# Altium footprint library CONN_TBLOCK_7P62.PcbLib: 76 footprints (part 5 of 5)
Each footprint in its own frame and in the unit in brackets; x right, y up, seen from the top. Pads: shape width x height; smd on the part's side, far side on the other; paste and mask are expansions set on the pad; w line width, h text height; cw(c..) or ccw(c..) is an arc to the next point about the centre after c.
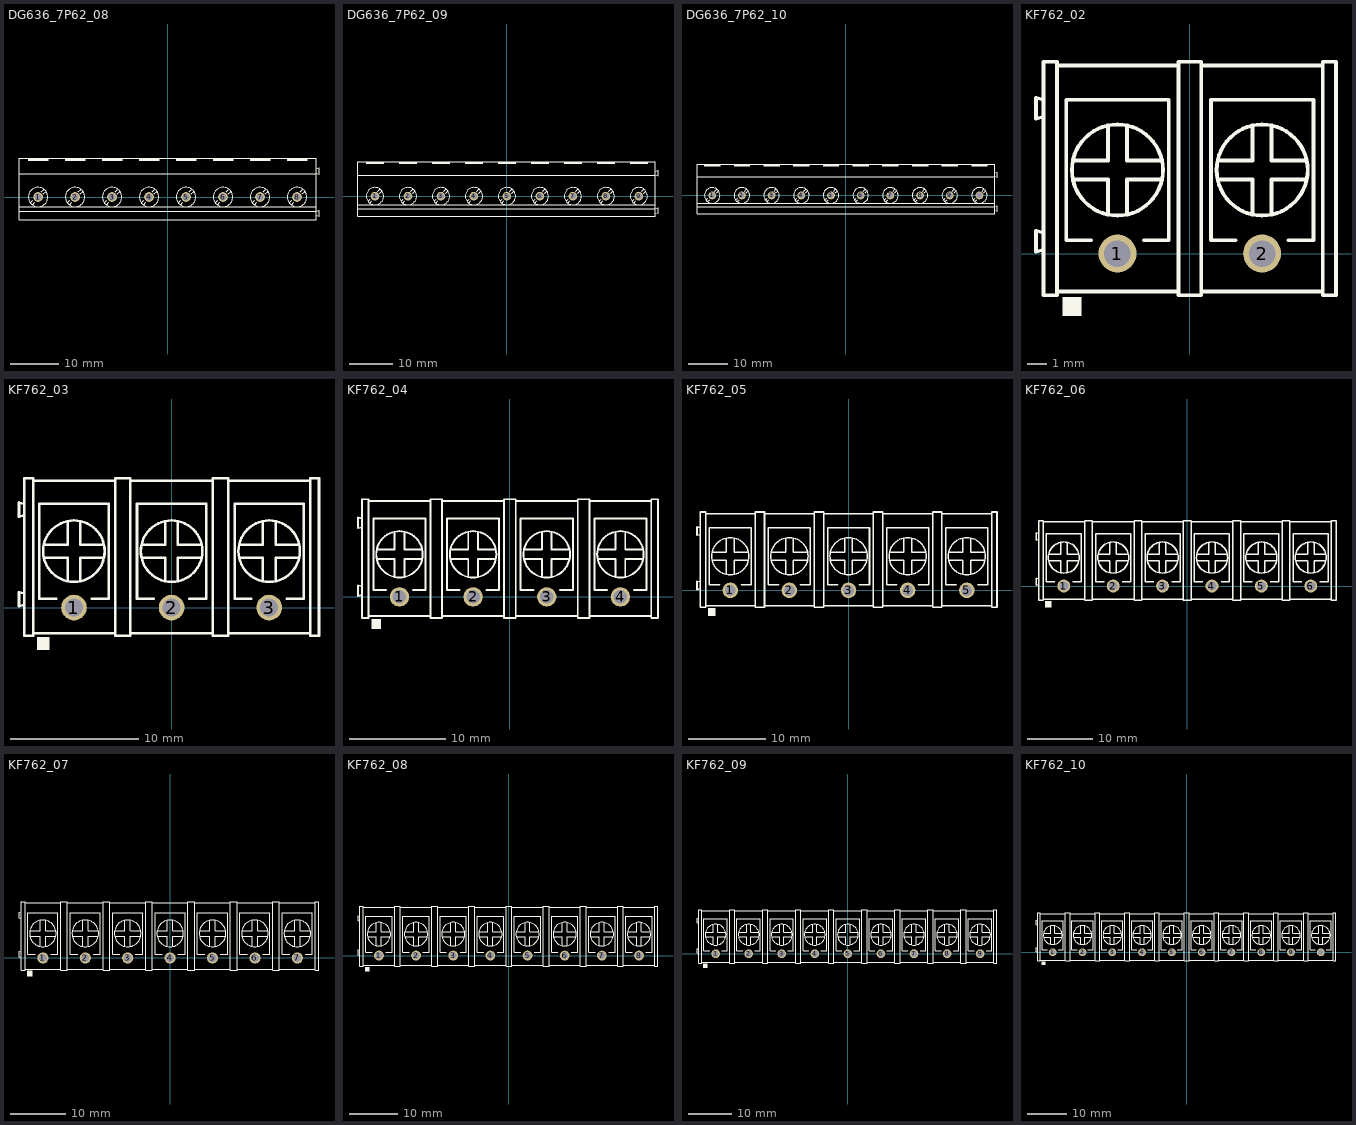
[diagram p4: the footprints below, top view; thin cyan lines are the x and y axes]

## DG636_7P62_08 [mm] "Terminal Screw, pitch 7.62mm, H 21.5mm"
height 21.5
pads (8):
  round 2 / inner round 2 / far side rect 2.2x3 hole 1.4: 1(-26.67,0)
  round 2 / inner round 2 / far side oval 2.2x3 hole 1.4: 2(-19.05,0) 3(-11.43,0) 4(-3.81,0) 5(3.81,0) 6(11.43,0) 7(19.05,0) 8(26.67,0)
Top Overlay:
  circle w0.2: c26.67,0 r2
  circle w0.2: c19.05,0 r2
  circle w0.2: c11.43,0 r2
  circle w0.2: c3.81,0 r2
  circle w0.2: c-3.81,0 r2
  circle w0.2: c-11.43,0 r2
  circle w0.2: c-19.05,0 r2
  circle w0.2: c-26.67,0 r2
  rectangle: 24.58,7.4 28.78,8
  rectangle: 16.96,7.4 21.16,8
  rectangle: 9.34,7.4 13.54,8
  rectangle: 1.72,7.4 5.92,8
  rectangle: -5.9,7.4 -1.7,8
  rectangle: -13.52,7.4 -9.32,8
  rectangle: -21.14,7.4 -16.94,8
  rectangle: -28.76,7.4 -24.56,8
  lines w0.2: -30.6,-2.9 30.6,-2.9 31.2,-2.7 31.2,-4 30.6,-3.8 ; -30.6,-2 30.6,-2 ; -30.6,4.8 30.6,4.8 ; -28.213,-1.119 -27.782,-0.688 ; -27.789,-1.543 -27.358,-1.112 ; -25.982,1.112 -25.551,1.543 ; -25.558,0.688 -25.127,1.119 ; -20.593,-1.119 -20.162,-0.688 ; -20.169,-1.543 -19.738,-1.112 ; -18.362,1.112 -17.931,1.543 ; -17.938,0.688 -17.507,1.119 ; -12.973,-1.119 -12.542,-0.688 ; -12.549,-1.543 -12.118,-1.112 ; -10.742,1.112 -10.311,1.543 ; -10.318,0.688 -9.887,1.119 ; -5.353,-1.119 -4.922,-0.688 ; -4.929,-1.543 -4.498,-1.112 ; -3.122,1.112 -2.691,1.543 ; -2.698,0.688 -2.267,1.119 ; 2.267,-1.119 2.698,-0.688 ; 2.691,-1.543 3.122,-1.112 ; 4.498,1.112 4.929,1.543 ; 4.922,0.688 5.353,1.119 ; 9.887,-1.119 10.318,-0.688 ; 10.311,-1.543 10.742,-1.112 ; 12.118,1.112 12.549,1.543 ; 12.542,0.688 12.973,1.119 ; 17.507,-1.119 17.938,-0.688 ; 17.931,-1.543 18.362,-1.112 ; 19.738,1.112 20.169,1.543 ; 20.162,0.688 20.593,1.119 ; 25.127,-1.119 25.558,-0.688 ; 25.551,-1.543 25.982,-1.112 ; 27.358,1.112 27.789,1.543 ; 27.782,0.688 28.213,1.119 ; 30.6,4.9 31.2,4.7 31.2,6 30.6,5.8 ; -30.6,-4.7 -30.6,8 30.6,8 30.6,-4.7 -30.6,-4.7
3D body "DG636-7.62-03P.stp": height 21.55, standoff -4.95, extent 7.63,-4.6 31.07,7.9
3D body "DG636-7.62-02P.stp": height 21.55, standoff -4.95, extent -30.47,-4.6 -14.65,7.9
3D body "DG636-7.62-03P.stp": height 21.55, standoff -4.95, extent -15.23,-4.6 8.21,7.9

## DG636_7P62_09 [mm] "Terminal Screw, pitch 7.62mm, H 21.5mm"
height 21.5
pads (9):
  round 2 / inner round 2 / far side rect 2.2x3 hole 1.4: 1(-30.48,0)
  round 2 / inner round 2 / far side oval 2.2x3 hole 1.4: 2(-22.86,0) 3(-15.24,0) 4(-7.62,0) 5(0,0) 6(7.62,0) 7(15.24,0) 8(22.86,0) 9(30.48,0)
Top Overlay:
  circle w0.2: c30.48,0 r2
  circle w0.2: c22.86,0 r2
  circle w0.2: c15.24,0 r2
  circle w0.2: c7.62,0 r2
  circle w0.2: c0,0 r2
  circle w0.2: c-7.62,0 r2
  circle w0.2: c-15.24,0 r2
  circle w0.2: c-22.86,0 r2
  circle w0.2: c-30.48,0 r2
  rectangle: 28.39,7.4 32.59,8
  rectangle: 20.77,7.4 24.97,8
  rectangle: 13.15,7.4 17.35,8
  rectangle: 5.53,7.4 9.73,8
  rectangle: -2.09,7.4 2.11,8
  rectangle: -9.71,7.4 -5.51,8
  rectangle: -17.33,7.4 -13.13,8
  rectangle: -24.95,7.4 -20.75,8
  rectangle: -32.57,7.4 -28.37,8
  lines w0.2: -34.4,-2.9 34.3,-2.9 34.9,-2.7 34.9,-4 34.3,-3.8 ; -34.4,-2 34.3,-2 ; -34.4,4.8 34.3,4.8 ; -32.023,-1.119 -31.592,-0.688 ; -31.599,-1.543 -31.168,-1.112 ; -29.792,1.112 -29.361,1.543 ; -29.368,0.688 -28.937,1.119 ; -24.403,-1.119 -23.972,-0.688 ; -23.979,-1.543 -23.548,-1.112 ; -22.172,1.112 -21.741,1.543 ; -21.748,0.688 -21.317,1.119 ; -16.783,-1.119 -16.352,-0.688 ; -16.359,-1.543 -15.928,-1.112 ; -14.552,1.112 -14.121,1.543 ; -14.128,0.688 -13.697,1.119 ; -9.163,-1.119 -8.732,-0.688 ; -8.739,-1.543 -8.308,-1.112 ; -6.932,1.112 -6.501,1.543 ; -6.508,0.688 -6.077,1.119 ; -1.543,-1.119 -1.112,-0.688 ; -1.119,-1.543 -0.688,-1.112 ; 0.688,1.112 1.119,1.543 ; 1.112,0.688 1.543,1.119 ; 6.077,-1.119 6.508,-0.688 ; 6.501,-1.543 6.932,-1.112 ; 8.308,1.112 8.739,1.543 ; 8.732,0.688 9.163,1.119 ; 13.697,-1.119 14.128,-0.688 ; 14.121,-1.543 14.552,-1.112 ; 15.928,1.112 16.359,1.543 ; 16.352,0.688 16.783,1.119 ; 21.317,-1.119 21.748,-0.688 ; 21.741,-1.543 22.172,-1.112 ; 23.548,1.112 23.979,1.543 ; 23.972,0.688 24.403,1.119 ; 28.937,-1.119 29.368,-0.688 ; 29.361,-1.543 29.792,-1.112 ; 31.168,1.112 31.599,1.543 ; 31.592,0.688 32.023,1.119 ; 34.3,4.9 34.9,4.7 34.9,6 34.3,5.8 ; -34.4,-4.7 -34.4,8 34.3,8 34.3,-4.7 -34.4,-4.7
3D body "DG636-7.62-03P.stp": height 21.55, standoff -4.95, extent -34.28,-4.6 -10.84,7.9
3D body "DG636-7.62-03P.stp": height 21.55, standoff -4.95, extent -11.42,-4.6 12.02,7.9
3D body "DG636-7.62-03P.stp": height 21.55, standoff -4.95, extent 11.44,-4.6 34.88,7.9

## DG636_7P62_10 [mm] "Terminal Screw, pitch 7.62mm, H 21.5mm"
height 21.5
pads (10):
  round 2 / inner round 2 / far side rect 2.2x3 hole 1.4: 1(-34.29,0)
  round 2 / inner round 2 / far side oval 2.2x3 hole 1.4: 2(-26.67,0) 3(-19.05,0) 4(-11.43,0) 5(-3.81,0) 6(3.81,0) 7(11.43,0) 8(19.05,0) 9(26.67,0) 10(34.29,0)
Top Overlay:
  circle w0.2: c34.29,0 r2
  circle w0.2: c26.67,0 r2
  circle w0.2: c19.05,0 r2
  circle w0.2: c11.43,0 r2
  circle w0.2: c3.81,0 r2
  circle w0.2: c-3.81,0 r2
  circle w0.2: c-11.43,0 r2
  circle w0.2: c-19.05,0 r2
  circle w0.2: c-26.67,0 r2
  circle w0.2: c-34.29,0 r2
  rectangle: 32.2,7.4 36.4,8
  rectangle: 24.58,7.4 28.78,8
  rectangle: 16.96,7.4 21.16,8
  rectangle: 9.34,7.4 13.54,8
  rectangle: 1.72,7.4 5.92,8
  rectangle: -5.9,7.4 -1.7,8
  rectangle: -13.52,7.4 -9.32,8
  rectangle: -21.14,7.4 -16.94,8
  rectangle: -28.76,7.4 -24.56,8
  rectangle: -36.38,7.4 -32.18,8
  lines w0.2: -38.2,-2.9 38.2,-2.9 38.8,-2.7 38.8,-4 38.2,-3.8 ; -38.2,-2 38.2,-2 ; -38.2,4.8 38.2,4.8 ; -35.833,-1.119 -35.402,-0.688 ; -35.409,-1.543 -34.978,-1.112 ; -33.602,1.112 -33.171,1.543 ; -33.178,0.688 -32.747,1.119 ; -28.213,-1.119 -27.782,-0.688 ; -27.789,-1.543 -27.358,-1.112 ; -25.982,1.112 -25.551,1.543 ; -25.558,0.688 -25.127,1.119 ; -20.593,-1.119 -20.162,-0.688 ; -20.169,-1.543 -19.738,-1.112 ; -18.362,1.112 -17.931,1.543 ; -17.938,0.688 -17.507,1.119 ; -12.973,-1.119 -12.542,-0.688 ; -12.549,-1.543 -12.118,-1.112 ; -10.742,1.112 -10.311,1.543 ; -10.318,0.688 -9.887,1.119 ; -5.353,-1.119 -4.922,-0.688 ; -4.929,-1.543 -4.498,-1.112 ; -3.122,1.112 -2.691,1.543 ; -2.698,0.688 -2.267,1.119 ; 2.267,-1.119 2.698,-0.688 ; 2.691,-1.543 3.122,-1.112 ; 4.498,1.112 4.929,1.543 ; 4.922,0.688 5.353,1.119 ; 9.887,-1.119 10.318,-0.688 ; 10.311,-1.543 10.742,-1.112 ; 12.118,1.112 12.549,1.543 ; 12.542,0.688 12.973,1.119 ; 17.507,-1.119 17.938,-0.688 ; 17.931,-1.543 18.362,-1.112 ; 19.738,1.112 20.169,1.543 ; 20.162,0.688 20.593,1.119 ; 25.127,-1.119 25.558,-0.688 ; 25.551,-1.543 25.982,-1.112 ; 27.358,1.112 27.789,1.543 ; 27.782,0.688 28.213,1.119 ; 32.747,-1.119 33.178,-0.688 ; 33.171,-1.543 33.602,-1.112 ; 34.978,1.112 35.409,1.543 ; 35.402,0.688 35.833,1.119 ; 38.2,4.9 38.8,4.7 38.8,6 38.2,5.8 ; -38.2,-4.7 -38.2,8 38.2,8 38.2,-4.7 -38.2,-4.7
3D body "DG636-7.62-03P.stp": height 21.55, standoff -4.95, extent 15.25,-4.6 38.69,7.9
3D body "DG636-7.62-02P.stp": height 21.55, standoff -4.95, extent 0.01,-4.6 15.83,7.9
3D body "DG636-7.62-03P.stp": height 21.55, standoff -4.95, extent -22.85,-4.6 0.59,7.9
3D body "DG636-7.62-02P.stp": height 21.55, standoff -4.95, extent -38.09,-4.6 -22.27,7.9

## KF762_02 [mm] "Terminal Screw, pitch 7.62mm, H 12.5mm, KF-762-7.62-xxP"
height 12.5
pads (2):
  round 2 / inner round 2 / far side rect 2.2x3 hole 1.4: 1(-3.81,0)
  round 2 / inner round 2 / far side oval 2.2x3 hole 1.4: 2(3.81,0)
Top Overlay:
  circle w0.2: c-3.81,4.4 r2.4
  circle w0.2: c3.81,4.4 r2.4
  rectangle: -6.7,-3.3 -5.7,-2.3
  lines w0.2: -7.7,0.2 -8.1,0.1 -8.1,1.2 -7.7,1.1 ; -7.7,7.2 -8.1,7.1 -8.1,8.2 -7.7,8.1 ; -7,-2 -0.6,-2 ; -7,9.9 -0.6,9.9 ; -6.11,3.9 -4.32,3.9 ; -6.11,4.9 -4.32,4.9 ; -5.2,0.7 -6.51,0.7 -6.51,8.1 -1.11,8.1 -1.11,0.7 -2.42,0.7 ; -4.31,2.1 -4.31,3.9 ; -4.31,4.9 -4.31,6.7 ; -3.31,2.1 -3.31,3.9 ; -3.31,4.9 -3.31,6.7 ; -3.3,3.9 -1.51,3.9 ; -3.3,4.9 -1.51,4.9 ; 0.6,-2 7,-2 ; 0.6,9.9 7,9.9 ; 1.51,3.9 3.3,3.9 ; 1.51,4.9 3.3,4.9 ; 2.42,0.7 1.11,0.7 1.11,8.1 6.51,8.1 6.51,0.7 5.2,0.7 ; 3.31,2.1 3.31,3.9 ; 3.31,4.9 3.31,6.7 ; 4.31,2.1 4.31,3.9 ; 4.31,4.9 4.31,6.7 ; 4.32,3.9 6.11,3.9 ; 4.32,4.9 6.11,4.9 ; -7.7,-2.2 -7.7,10.1 -7,10.1 -7,-2.2 -7.7,-2.2 ; -0.6,-2.2 -0.6,10.1 0.6,10.1 0.6,-2.2 -0.6,-2.2 ; 7,-2.2 7,10.1 7.7,10.1 7.7,-2.2 7,-2.2
3D body "KF762-2P.step": height 12.5, standoff -5, extent -8.02,-2.1 7.62,10

## KF762_03 [mm] "Terminal Screw, pitch 7.62mm, H 12.5mm, KF-762-7.62-xxP"
height 12.5
pads (3):
  round 2 / inner round 2 / far side rect 2.2x3 hole 1.4: 1(-7.62,0)
  round 2 / inner round 2 / far side oval 2.2x3 hole 1.4: 2(0,0) 3(7.62,0)
Top Overlay:
  circle w0.2: c7.62,4.4 r2.4
  circle w0.2: c0,4.4 r2.4
  circle w0.2: c-7.62,4.4 r2.4
  rectangle: -10.51,-3.3 -9.51,-2.3
  lines w0.2: -11.51,0.2 -11.91,0.1 -11.91,1.2 -11.51,1.1 ; -11.51,7.2 -11.91,7.1 -11.91,8.2 -11.51,8.1 ; -10.81,-2 -4.41,-2 ; -10.81,9.9 -4.41,9.9 ; -9.92,3.9 -8.13,3.9 ; -9.92,4.9 -8.13,4.9 ; -9.01,0.7 -10.32,0.7 -10.32,8.1 -4.92,8.1 -4.92,0.7 -6.23,0.7 ; -8.12,2.1 -8.12,3.9 ; -8.12,4.9 -8.12,6.7 ; -7.12,2.1 -7.12,3.9 ; -7.12,4.9 -7.12,6.7 ; -7.11,3.9 -5.32,3.9 ; -7.11,4.9 -5.32,4.9 ; -3.19,-2 3.21,-2 ; -3.19,9.9 3.21,9.9 ; -2.3,3.9 -0.51,3.9 ; -2.3,4.9 -0.51,4.9 ; -1.39,0.7 -2.7,0.7 -2.7,8.1 2.7,8.1 2.7,0.7 1.39,0.7 ; -0.5,2.1 -0.5,3.9 ; -0.5,4.9 -0.5,6.7 ; 0.5,2.1 0.5,3.9 ; 0.5,4.9 0.5,6.7 ; 0.51,3.9 2.3,3.9 ; 0.51,4.9 2.3,4.9 ; 4.41,-2 10.81,-2 ; 4.41,9.9 10.81,9.9 ; 5.32,3.9 7.11,3.9 ; 5.32,4.9 7.11,4.9 ; 6.23,0.7 4.92,0.7 4.92,8.1 10.32,8.1 10.32,0.7 9.01,0.7 ; 7.12,2.1 7.12,3.9 ; 7.12,4.9 7.12,6.7 ; 8.12,2.1 8.12,3.9 ; 8.12,4.9 8.12,6.7 ; 8.13,3.9 9.92,3.9 ; 8.13,4.9 9.92,4.9 ; -11.51,-2.2 -10.81,-2.2 -10.81,10.1 -11.51,10.1 -11.51,-2.2 ; -4.41,-2.2 -3.21,-2.2 -3.21,10.1 -4.41,10.1 -4.41,-2.2 ; 3.21,-2.2 4.41,-2.2 4.41,10.1 3.21,10.1 3.21,-2.2 ; 10.81,-2.2 10.81,10.1 11.51,10.1 11.51,-2.2 10.81,-2.2
3D body "KF762-3P.step": height 12.5, standoff -5, extent -11.83,-2.1 11.43,10

## KF762_04 [mm] "Terminal Screw, pitch 7.62mm, H 12.5mm, KF-762-7.62-xxP"
height 12.5
pads (4):
  round 2 / inner round 2 / far side rect 2.2x3 hole 1.4: 1(-11.43,0)
  round 2 / inner round 2 / far side oval 2.2x3 hole 1.4: 2(-3.81,0) 3(3.81,0) 4(11.43,0)
Top Overlay:
  circle w0.2: c3.81,4.4 r2.4
  circle w0.2: c-3.81,4.4 r2.4
  circle w0.2: c-11.43,4.4 r2.4
  circle w0.2: c11.43,4.4 r2.4
  rectangle: -14.32,-3.3 -13.32,-2.3
  lines w0.2: -15.32,0.2 -15.72,0.1 -15.72,1.2 -15.32,1.1 ; -15.32,7.2 -15.72,7.1 -15.72,8.2 -15.32,8.1 ; -14.62,-2 -8.22,-2 ; -14.62,9.9 -8.22,9.9 ; -13.73,3.9 -11.94,3.9 ; -13.73,4.9 -11.94,4.9 ; -12.82,0.7 -14.13,0.7 -14.13,8.1 -8.73,8.1 -8.73,0.7 -10.04,0.7 ; -11.93,2.1 -11.93,3.9 ; -11.93,4.9 -11.93,6.7 ; -10.93,2.1 -10.93,3.9 ; -10.93,4.9 -10.93,6.7 ; -10.92,3.9 -9.13,3.9 ; -10.92,4.9 -9.13,4.9 ; -7,-2 -0.6,-2 ; -7,9.9 -0.6,9.9 ; -6.11,3.9 -4.32,3.9 ; -6.11,4.9 -4.32,4.9 ; -5.2,0.7 -6.51,0.7 -6.51,8.1 -1.11,8.1 -1.11,0.7 -2.42,0.7 ; -4.31,2.1 -4.31,3.9 ; -4.31,4.9 -4.31,6.7 ; -3.31,2.1 -3.31,3.9 ; -3.31,4.9 -3.31,6.7 ; -3.3,3.9 -1.51,3.9 ; -3.3,4.9 -1.51,4.9 ; 0.62,-2 7.02,-2 ; 0.62,9.9 7.02,9.9 ; 1.51,3.9 3.3,3.9 ; 1.51,4.9 3.3,4.9 ; 2.42,0.7 1.11,0.7 1.11,8.1 6.51,8.1 6.51,0.7 5.2,0.7 ; 3.31,2.1 3.31,3.9 ; 3.31,4.9 3.31,6.7 ; 4.31,2.1 4.31,3.9 ; 4.31,4.9 4.31,6.7 ; 4.32,3.9 6.11,3.9 ; 4.32,4.9 6.11,4.9 ; 8.22,-2 14.62,-2 ; 8.22,9.9 14.62,9.9 ; 9.13,3.9 10.92,3.9 ; 9.13,4.9 10.92,4.9 ; 10.04,0.7 8.73,0.7 8.73,8.1 14.13,8.1 14.13,0.7 12.82,0.7 ; 10.93,2.1 10.93,3.9 ; 10.93,4.9 10.93,6.7 ; 11.93,2.1 11.93,3.9 ; 11.93,4.9 11.93,6.7 ; 11.94,3.9 13.73,3.9 ; 11.94,4.9 13.73,4.9 ; -15.32,-2.2 -14.62,-2.2 -14.62,10.1 -15.32,10.1 -15.32,-2.2 ; -8.22,-2.2 -7.02,-2.2 -7.02,10.1 -8.22,10.1 -8.22,-2.2 ; -0.6,-2.2 0.6,-2.2 0.6,10.1 -0.6,10.1 -0.6,-2.2 ; 7.02,-2.2 8.22,-2.2 8.22,10.1 7.02,10.1 7.02,-2.2 ; 14.62,-2.2 15.32,-2.2 15.32,10.1 14.62,10.1 14.62,-2.2
3D body "KF762-2P.step": height 12.5, standoff -5, extent -0.4,-2.1 15.24,10
3D body "KF762-2P.step": height 12.5, standoff -5, extent -15.64,-2.1 0,10

## KF762_05 [mm] "Terminal Screw, pitch 7.62mm, H 12.5mm, KF-762-7.62-xxP"
height 12.5
pads (5):
  round 2 / inner round 2 / far side rect 2.2x3 hole 1.4: 1(-15.24,0)
  round 2 / inner round 2 / far side oval 2.2x3 hole 1.4: 2(-7.62,0) 3(0,0) 4(7.62,0) 5(15.24,0)
Top Overlay:
  circle w0.2: c7.62,4.4 r2.4
  circle w0.2: c0,4.4 r2.4
  circle w0.2: c-7.62,4.4 r2.4
  circle w0.2: c-15.24,4.4 r2.4
  circle w0.2: c15.24,4.4 r2.4
  rectangle: -18.13,-3.3 -17.13,-2.3
  lines w0.2: -19.13,0.2 -19.53,0.1 -19.53,1.2 -19.13,1.1 ; -19.13,7.2 -19.53,7.1 -19.53,8.2 -19.13,8.1 ; -18.43,-2 -12.03,-2 ; -18.43,9.9 -12.03,9.9 ; -17.54,3.9 -15.75,3.9 ; -17.54,4.9 -15.75,4.9 ; -16.63,0.7 -17.94,0.7 -17.94,8.1 -12.54,8.1 -12.54,0.7 -13.85,0.7 ; -15.74,2.1 -15.74,3.9 ; -15.74,4.9 -15.74,6.7 ; -14.74,2.1 -14.74,3.9 ; -14.74,4.9 -14.74,6.7 ; -14.73,3.9 -12.94,3.9 ; -14.73,4.9 -12.94,4.9 ; -10.81,-2 -4.41,-2 ; -10.81,9.9 -4.41,9.9 ; -9.92,3.9 -8.13,3.9 ; -9.92,4.9 -8.13,4.9 ; -9.01,0.7 -10.32,0.7 -10.32,8.1 -4.92,8.1 -4.92,0.7 -6.23,0.7 ; -8.12,2.1 -8.12,3.9 ; -8.12,4.9 -8.12,6.7 ; -7.12,2.1 -7.12,3.9 ; -7.12,4.9 -7.12,6.7 ; -7.11,3.9 -5.32,3.9 ; -7.11,4.9 -5.32,4.9 ; -3.19,-2 3.21,-2 ; -3.19,9.9 3.21,9.9 ; -2.3,3.9 -0.51,3.9 ; -2.3,4.9 -0.51,4.9 ; -1.39,0.7 -2.7,0.7 -2.7,8.1 2.7,8.1 2.7,0.7 1.39,0.7 ; -0.5,2.1 -0.5,3.9 ; -0.5,4.9 -0.5,6.7 ; 0.5,2.1 0.5,3.9 ; 0.5,4.9 0.5,6.7 ; 0.51,3.9 2.3,3.9 ; 0.51,4.9 2.3,4.9 ; 4.43,-2 10.83,-2 ; 4.43,9.9 10.83,9.9 ; 5.32,3.9 7.11,3.9 ; 5.32,4.9 7.11,4.9 ; 6.23,0.7 4.92,0.7 4.92,8.1 10.32,8.1 10.32,0.7 9.01,0.7 ; 7.12,2.1 7.12,3.9 ; 7.12,4.9 7.12,6.7 ; 8.12,2.1 8.12,3.9 ; 8.12,4.9 8.12,6.7 ; 8.13,3.9 9.92,3.9 ; 8.13,4.9 9.92,4.9 ; 12.03,-2 18.43,-2 ; 12.03,9.9 18.43,9.9 ; 12.94,3.9 14.73,3.9 ; 12.94,4.9 14.73,4.9 ; 13.85,0.7 12.54,0.7 12.54,8.1 17.94,8.1 17.94,0.7 16.63,0.7 ; 14.74,2.1 14.74,3.9 ; 14.74,4.9 14.74,6.7 ; 15.74,2.1 15.74,3.9 ; 15.74,4.9 15.74,6.7 ; 15.75,3.9 17.54,3.9 ; 15.75,4.9 17.54,4.9 ; -19.13,-2.2 -18.43,-2.2 -18.43,10.1 -19.13,10.1 -19.13,-2.2 ; -12.03,-2.2 -10.83,-2.2 -10.83,10.1 -12.03,10.1 -12.03,-2.2 ; -4.41,-2.2 -3.21,-2.2 -3.21,10.1 -4.41,10.1 -4.41,-2.2 ; 3.21,-2.2 4.41,-2.2 4.41,10.1 3.21,10.1 3.21,-2.2 ; 10.83,-2.2 12.03,-2.2 12.03,10.1 10.83,10.1 10.83,-2.2 ; 18.43,-2.2 19.13,-2.2 19.13,10.1 18.43,10.1 18.43,-2.2
3D body "KF762-2P.step": height 12.5, standoff -5, extent -19.45,-2.1 -3.81,10
3D body "KF762-3P.step": height 12.5, standoff -5, extent -4.21,-2.1 19.05,10

## KF762_06 [mm] "Terminal Screw, pitch 7.62mm, H 12.5mm, KF-762-7.62-xxP"
height 12.5
pads (6):
  round 2 / inner round 2 / far side rect 2.2x3 hole 1.4: 1(-19.05,0)
  round 2 / inner round 2 / far side oval 2.2x3 hole 1.4: 2(-11.43,0) 3(-3.81,0) 4(3.81,0) 5(11.43,0) 6(19.05,0)
Top Overlay:
  circle w0.2: c11.43,4.4 r2.4
  circle w0.2: c3.81,4.4 r2.4
  circle w0.2: c-3.81,4.4 r2.4
  circle w0.2: c-11.43,4.4 r2.4
  circle w0.2: c-19.05,4.4 r2.4
  circle w0.2: c19.05,4.4 r2.4
  rectangle: -21.94,-3.3 -20.94,-2.3
  lines w0.2: -22.94,0.2 -23.34,0.1 -23.34,1.2 -22.94,1.1 ; -22.94,7.2 -23.34,7.1 -23.34,8.2 -22.94,8.1 ; -22.24,-2 -15.84,-2 ; -22.24,9.9 -15.84,9.9 ; -21.35,3.9 -19.56,3.9 ; -21.35,4.9 -19.56,4.9 ; -20.44,0.7 -21.75,0.7 -21.75,8.1 -16.35,8.1 -16.35,0.7 -17.66,0.7 ; -19.55,2.1 -19.55,3.9 ; -19.55,4.9 -19.55,6.7 ; -18.55,2.1 -18.55,3.9 ; -18.55,4.9 -18.55,6.7 ; -18.54,3.9 -16.75,3.9 ; -18.54,4.9 -16.75,4.9 ; -14.62,-2 -8.22,-2 ; -14.62,9.9 -8.22,9.9 ; -13.73,3.9 -11.94,3.9 ; -13.73,4.9 -11.94,4.9 ; -12.82,0.7 -14.13,0.7 -14.13,8.1 -8.73,8.1 -8.73,0.7 -10.04,0.7 ; -11.93,2.1 -11.93,3.9 ; -11.93,4.9 -11.93,6.7 ; -10.93,2.1 -10.93,3.9 ; -10.93,4.9 -10.93,6.7 ; -10.92,3.9 -9.13,3.9 ; -10.92,4.9 -9.13,4.9 ; -7,-2 -0.6,-2 ; -7,9.9 -0.6,9.9 ; -6.11,3.9 -4.32,3.9 ; -6.11,4.9 -4.32,4.9 ; -5.2,0.7 -6.51,0.7 -6.51,8.1 -1.11,8.1 -1.11,0.7 -2.42,0.7 ; -4.31,2.1 -4.31,3.9 ; -4.31,4.9 -4.31,6.7 ; -3.31,2.1 -3.31,3.9 ; -3.31,4.9 -3.31,6.7 ; -3.3,3.9 -1.51,3.9 ; -3.3,4.9 -1.51,4.9 ; 0.62,-2 7.02,-2 ; 0.62,9.9 7.02,9.9 ; 1.51,3.9 3.3,3.9 ; 1.51,4.9 3.3,4.9 ; 2.42,0.7 1.11,0.7 1.11,8.1 6.51,8.1 6.51,0.7 5.2,0.7 ; 3.31,2.1 3.31,3.9 ; 3.31,4.9 3.31,6.7 ; 4.31,2.1 4.31,3.9 ; 4.31,4.9 4.31,6.7 ; 4.32,3.9 6.11,3.9 ; 4.32,4.9 6.11,4.9 ; 8.24,-2 14.64,-2 ; 8.24,9.9 14.64,9.9 ; 9.13,3.9 10.92,3.9 ; 9.13,4.9 10.92,4.9 ; 10.04,0.7 8.73,0.7 8.73,8.1 14.13,8.1 14.13,0.7 12.82,0.7 ; 10.93,2.1 10.93,3.9 ; 10.93,4.9 10.93,6.7 ; 11.93,2.1 11.93,3.9 ; 11.93,4.9 11.93,6.7 ; 11.94,3.9 13.73,3.9 ; 11.94,4.9 13.73,4.9 ; 15.84,-2 22.24,-2 ; 15.84,9.9 22.24,9.9 ; 16.75,3.9 18.54,3.9 ; 16.75,4.9 18.54,4.9 ; 17.66,0.7 16.35,0.7 16.35,8.1 21.75,8.1 21.75,0.7 20.44,0.7 ; 18.55,2.1 18.55,3.9 ; 18.55,4.9 18.55,6.7 ; 19.55,2.1 19.55,3.9 ; 19.55,4.9 19.55,6.7 ; 19.56,3.9 21.35,3.9 ; 19.56,4.9 21.35,4.9 ; -22.94,-2.2 -22.24,-2.2 -22.24,10.1 -22.94,10.1 -22.94,-2.2 ; -15.84,-2.2 -14.64,-2.2 -14.64,10.1 -15.84,10.1 -15.84,-2.2 ; -8.22,-2.2 -7.02,-2.2 -7.02,10.1 -8.22,10.1 -8.22,-2.2 ; -0.6,-2.2 0.6,-2.2 0.6,10.1 -0.6,10.1 -0.6,-2.2 ; 7.02,-2.2 8.22,-2.2 8.22,10.1 7.02,10.1 7.02,-2.2 ; 14.64,-2.2 15.84,-2.2 15.84,10.1 14.64,10.1 14.64,-2.2 ; 22.24,-2.2 22.94,-2.2 22.94,10.1 22.24,10.1 22.24,-2.2
3D body "KF762-3P.step": height 12.5, standoff -5, extent -0.4,-2.1 22.86,10
3D body "KF762-3P.step": height 12.5, standoff -5, extent -23.26,-2.1 0,10

## KF762_07 [mm] "Terminal Screw, pitch 7.62mm, H 12.5mm, KF-762-7.62-xxP"
height 12.5
pads (7):
  round 2 / inner round 2 / far side rect 2.2x3 hole 1.4: 1(-22.86,0)
  round 2 / inner round 2 / far side oval 2.2x3 hole 1.4: 2(-15.24,0) 3(-7.62,0) 4(0,0) 5(7.62,0) 6(15.24,0) 7(22.86,0)
Top Overlay:
  drawing of 151 lines, arcs and shapes, not listed
3D body "KF762-2P.step": height 12.5, standoff -5, extent 11.03,-2.1 26.67,10
3D body "KF762-2P.step": height 12.5, standoff -5, extent -27.07,-2.1 -11.43,10
3D body "KF762-3P.step": height 12.5, standoff -5, extent -11.83,-2.1 11.43,10

## KF762_08 [mm] "Terminal Screw, pitch 7.62mm, H 12.5mm, KF-762-7.62-xxP"
height 12.5
pads (8):
  round 2 / inner round 2 / far side rect 2.2x3 hole 1.4: 1(-26.67,0)
  round 2 / inner round 2 / far side oval 2.2x3 hole 1.4: 2(-19.05,0) 3(-11.43,0) 4(-3.81,0) 5(3.81,0) 6(11.43,0) 7(19.05,0) 8(26.67,0)
Top Overlay:
  drawing of 171 lines, arcs and shapes, not listed
3D body "KF762-3P.step": height 12.5, standoff -5, extent 7.22,-2.1 30.48,10
3D body "KF762-3P.step": height 12.5, standoff -5, extent -15.64,-2.1 7.62,10
3D body "KF762-2P.step": height 12.5, standoff -5, extent -30.88,-2.1 -15.24,10

## KF762_09 [mm] "Terminal Screw, pitch 7.62mm, H 12.5mm, KF-762-7.62-xxP"
height 12.5
pads (9):
  round 2 / inner round 2 / far side rect 2.2x3 hole 1.4: 1(-30.48,0)
  round 2 / inner round 2 / far side oval 2.2x3 hole 1.4: 2(-22.86,0) 3(-15.24,0) 4(-7.62,0) 5(0,0) 6(7.62,0) 7(15.24,0) 8(22.86,0) 9(30.48,0)
Top Overlay:
  drawing of 191 lines, arcs and shapes, not listed
3D body "KF762-3P.step": height 12.5, standoff -5, extent 11.03,-2.1 34.29,10
3D body "KF762-3P.step": height 12.5, standoff -5, extent -11.83,-2.1 11.43,10
3D body "KF762-3P.step": height 12.5, standoff -5, extent -34.69,-2.1 -11.43,10

## KF762_10 [mm] "Terminal Screw, pitch 7.62mm, H 12.5mm, KF-762-7.62-xxP"
height 12.5
pads (10):
  round 2 / inner round 2 / far side rect 2.2x3 hole 1.4: 1(-34.29,0)
  round 2 / inner round 2 / far side oval 2.2x3 hole 1.4: 2(-26.67,0) 3(-19.05,0) 4(-11.43,0) 5(-3.81,0) 6(3.81,0) 7(11.43,0) 8(19.05,0) 9(26.67,0) 10(34.29,0)
Top Overlay:
  drawing of 211 lines, arcs and shapes, not listed
3D body "KF762-2P.step": height 12.5, standoff -5, extent -0.4,-2.1 15.24,10
3D body "KF762-3P.step": height 12.5, standoff -5, extent 14.84,-2.1 38.1,10
3D body "KF762-2P.step": height 12.5, standoff -5, extent -38.5,-2.1 -22.86,10
3D body "KF762-3P.step": height 12.5, standoff -5, extent -23.26,-2.1 0,10